# Altium schematic symbol library Barsotion_SCHLib.SchLib: 69 symbols
Pins are listed as number, name and electrical type; pins without a type are passive.

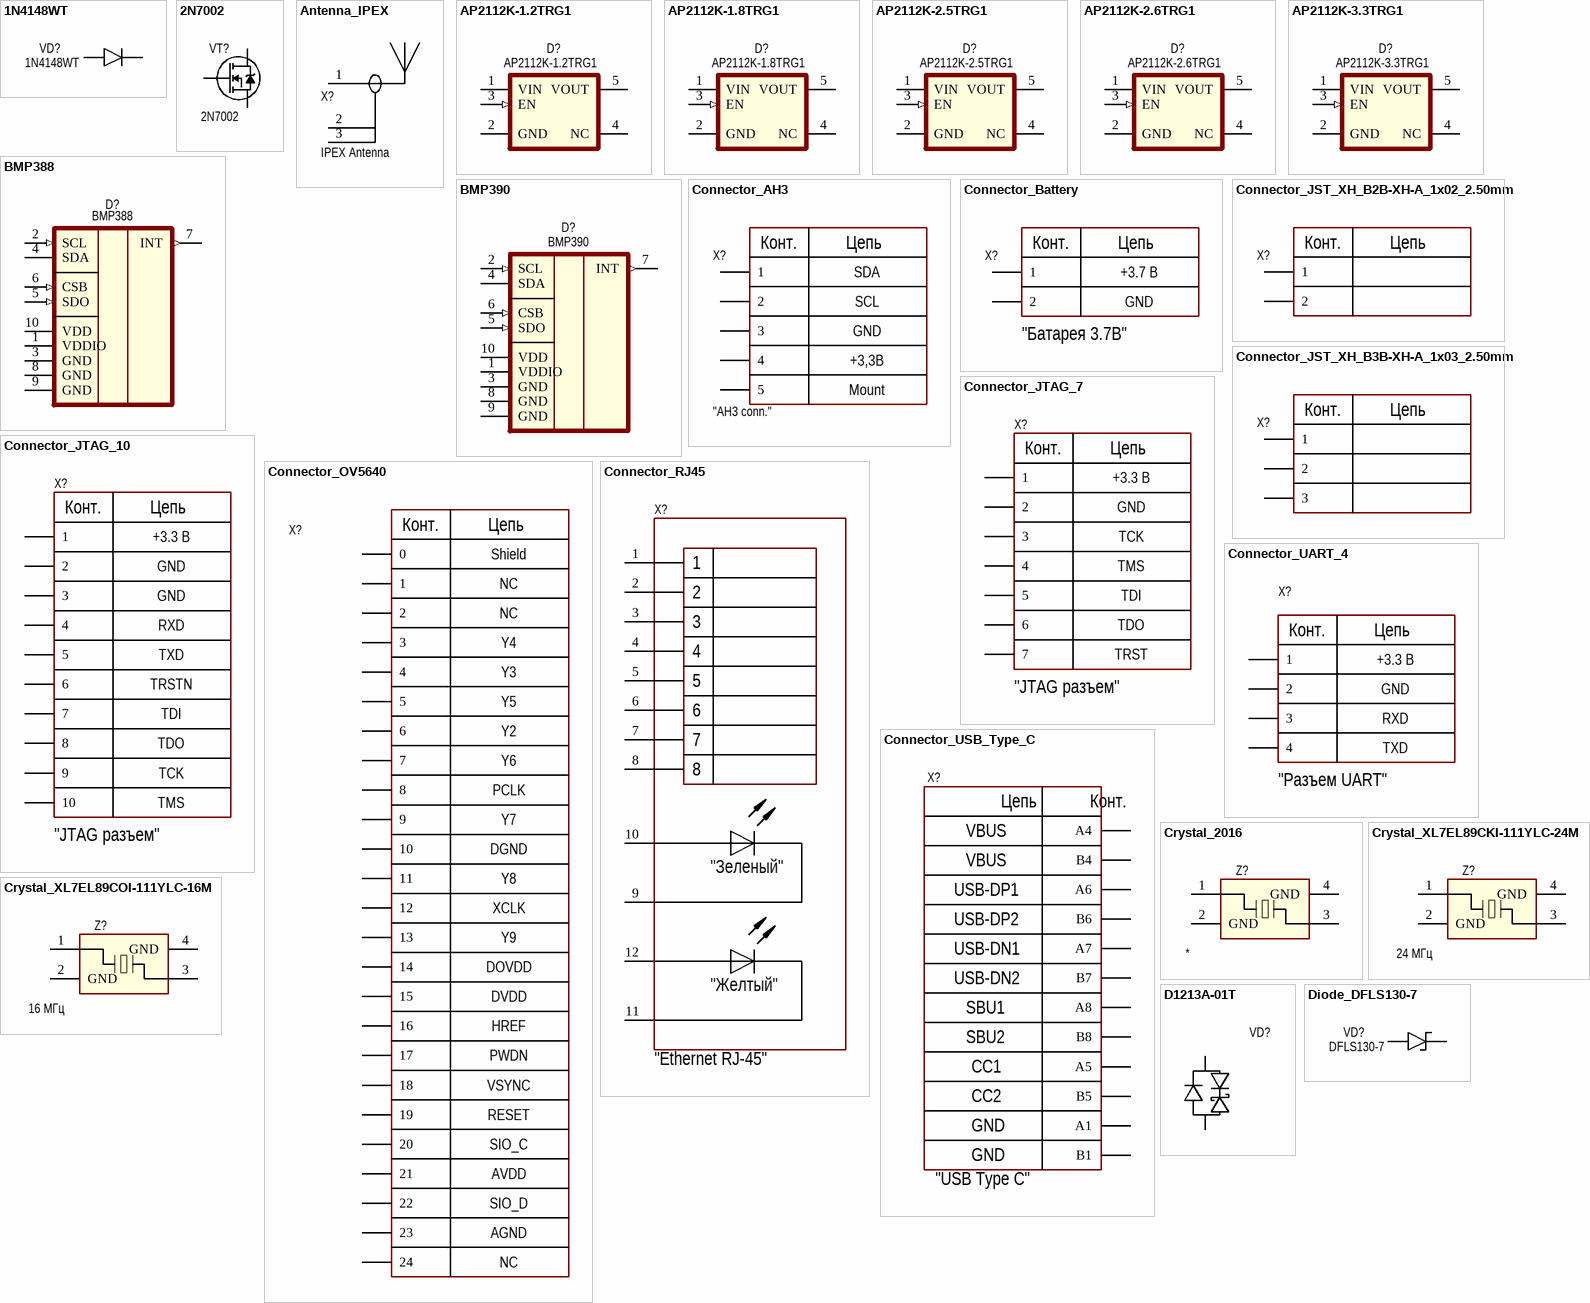
[diagram p0: symbols 1N4148WT to Diode_DFLS130-7]

## 1N4148WT
designator VD?, comment value 1N4148WT  (hidden comment: Diode Independent 75V 150mA Surface Mount SOD-523)
Диод кремниевый 100В 300мА, SOD-123; Manufacturer: JSMSEMI; Mfr.Part: 1N4148WT; HelpURL: https://www.lcsc.com/product-detail/C917006.html
footprint SOD-523
pins: A Anode, K Kathode

## 2N7002
designator VT?, comment value 2N7002  (hidden comment: N-Channel 60V 380mA 540mW Surface Mount SOT-23)
Транзистор N-канальный, 60В 115мА 200мВт, SOT-23; Mfr.Part: 2N7002K-7; Manufacturer: Diodes; HelpURL: https://www.lcsc.com/product-detail/C85047.html
footprint SOT-23
pins: 1 G, 2 S, 3 D

## Antenna_IPEX
designator X?, comment value IPEX Antenna  (hidden comment: Connector Receptacle IPEX Male Pin 50Ω Surface Mount)
Manufacturer: HRS; Mfr.Part: U.FL-R-SMT-1(80); HelpURL: https://www.lcsc.com/product-detail/C88374.html
footprint Conn_IPEX_ANTENNA
pins: 1 Antenna, 2 GND, 3 GND

## AP2112K-1.2TRG1
designator D?, comment value AP2112K-1.2TRG1  (hidden comment: 1.2V Positive Fixed SOT-25 Voltage Regulators - Linear, Low Drop Out (LDO) Regulators RoHS)
Микросхема линейного стабилизатора напряжения 1,2В 600мА, SOT-23-5; Manufacturer: Diodes; Mfr.Part: AP2112K-1.2TRG1; Parameter 1: https://www.lcsc.com/product-detail/C460310.html
footprint SOT-23-5
pins: 1 VIN, 2 GND (power), 3 EN (in), 4 NC, 5 VOUT (power)

## AP2112K-1.8TRG1
designator D?, comment value AP2112K-1.8TRG1  (hidden comment: 1.8V Positive Fixed SOT-25 Voltage Regulators - Linear, Low Drop Out (LDO) Regulators RoHS)
Микросхема линейного стабилизатора напряжения 1,8В 600мА, SOT-23-5; Manufacturer: Diodes; Mfr.Part: AP2112K-1.8TRG1; HelpURL: https://www.lcsc.com/product-detail/C176944.html
footprint SOT-23-5
pins: 1 VIN, 2 GND (power), 3 EN (in), 4 NC, 5 VOUT (power)

## AP2112K-2.5TRG1
designator D?, comment value AP2112K-2.5TRG1  (hidden comment: 2.5V Positive Fixed SOT-25 Voltage Regulators - Linear, Low Drop Out (LDO) Regulators RoHS)
Микросхема линейного стабилизатора напряжения 2,5В 600мА, SOT-23-5; Manufacturer: Diodes; Mfr.Part: AP2112K-2.5TRG1; HelpURL: https://www.lcsc.com/product-detail/C176945.html
footprint SOT-23-5
pins: 1 VIN, 2 GND (power), 3 EN (in), 4 NC, 5 VOUT (power)

## AP2112K-2.6TRG1
designator D?, comment value AP2112K-2.6TRG1  (hidden comment: 2.6V Positive Fixed SOT-25 Voltage Regulators - Linear, Low Drop Out (LDO) Regulators RoHS)
Микросхема линейного стабилизатора напряжения 2,6В 600мА, SOT-23-5; Manufacturer: Diodes; Mfr.Part: AP2112K-2.6TRG1; HelpURL: https://www.lcsc.com/product-detail/C7076810.html
footprint SOT-23-5
pins: 1 VIN, 2 GND (power), 3 EN (in), 4 NC, 5 VOUT (power)

## AP2112K-3.3TRG1
designator D?, comment value AP2112K-3.3TRG1  (hidden comment: 3.3V Positive Fixed SOT-25-5 Voltage Regulators - Linear, Low Drop Out (LDO) Regulators RoHS)
Микросхема линейного стабилизатора напряжения 3,3В 600мА, SOT-23-5; Manufacturer: Diodes; Mfr.Part: AP2112K-3.3TRG1; HelpURL: https://www.lcsc.com/product-detail/C51118.html
footprint SOT-23-5
pins: 1 VIN, 2 GND (power), 3 EN (in), 4 NC, 5 VOUT (power)

## BMP388
designator D?, comment value BMP388  (hidden comment: 30Kpa~1.25bar LGA-10(2x2) Pressure Sensors, Transducers RoHS)
Микросхема интегрального барометра, LGA-10 2x2mm; Manufacturer: Bosch; Mfr.Part: BMP388; HelpURL: https://www.lcsc.com/product-detail/C779278.html
footprint BMP388_LGA-10_2x2mm
pins: 1 VDDIO (power), 2 SCL (in), 3 GND (power), 4 SDA (oc), 5 SDO (in), 6 CSB (in), 7 INT (out), 8 GND (power), 9 GND (power), 10 VDD (power)

## BMP390
designator D?, comment value BMP390  (hidden comment: 30Kpa~1.25bar LGA-10(2x2) Pressure Sensors, Transducers RoHS)
Микросхема интегрального барометра, LGA-10 2x2mm; Manufacturer: Bosch; Mfr.Part: BMP390; HelpURL: https://www.lcsc.com/product-detail/C5124834.html
footprint BMP390_LGA-10_2x2mm
pins: 1 VDDIO (power), 2 SCL (in), 3 GND (power), 4 SDA (oc), 5 SDO (in), 6 CSB (in), 7 INT (out), 8 GND (power), 9 GND (power), 10 VDD (power)

## Connector_AH3
designator X?, comment value "AH3 conn."  (hidden comment: Connector Header 4 position 1.25mm Pitch)
Manufacturer: CJT(Changjiang Connectors); Mfr.Part: A1257WR-S-4P; HelpURL: https://www.lcsc.com/product-detail/C225127.html
footprint CONN_JST_GH_SM04B
pins: 1, 2, 3, 4, 5
text: Конт.; Цепь; SDA; SCL; GND; +3,3В; Mount

## Connector_Battery
designator X?, comment "Батарея 3.7В"
Battery connector for cable soldering
footprint CONN_BATTERY_3V7_V2
pins: 1, 2
text: Конт.; Цепь; +3.7 В; GND

## Connector_JST_XH_B2B-XH-A_1x02_2.50mm
designator X?  (value not drawn)
2-pin through-hole connector
footprint CONN_JST_XH_B2B-XH-A_1x02_P2.50mm
pins: 1, 2
text: Конт.; Цепь

## Connector_JST_XH_B3B-XH-A_1x03_2.50mm
designator X?  (value not drawn)
3-pin through-hole connector
footprint CONN_JST_XH_B3B-XH-A_1x03_P2.50mm
pins: 1, 2, 3
text: Конт.; Цепь

## Connector_JTAG_7
designator X?  CommentText: "JTAG разъем"
Edge-board JTAG connector including TRST; Manufacturer: JST; ValueManufacturerPartNumber: Connector, 2pin, 2.5 mm, 250V, 3A; PartNumber: B2B-EH-A; VoltageMax: 250V; Pitch: 2.5 mm; CurrentMax: 3A; Multichannel: 2pin; HelpURL: https://www.digikey.com/product-detail/en/jst-sales-america-inc/B2B-EH-A-LF-SN/455-1611-ND/926520; TypeConnector: Connector
footprint CONN_7x1.27мм_NO_SOLDERING
pins: 1, 2, 3, 4, 5, 6, 7
text: Конт.; Цепь; +3.3 В; GND; TCK; TMS; TDI; TDO; TRST

## Connector_JTAG_10
designator X?  CommentText: "JTAG разъем"
Edge-board JTAG connector including TRST; Manufacturer: JST; ValueManufacturerPartNumber: Connector, 2pin, 2.5 mm, 250V, 3A; PartNumber: B2B-EH-A; VoltageMax: 250V; Pitch: 2.5 mm; CurrentMax: 3A; Multichannel: 2pin; HelpURL: https://www.digikey.com/product-detail/en/jst-sales-america-inc/B2B-EH-A-LF-SN/455-1611-ND/926520; TypeConnector: Connector
footprint CONN_5x10_1.27мм_NO_SOLDERING
pins: 1, 2, 3, 4, 5, 6, 7, 8, 9, 10
text: Конт.; Цепь; +3.3 В; GND; RXD; TXD; TRSTN; TDI; TDO; TCK; TMS

## Connector_OV5640
designator X?, comment FFC/FPC Connector 24 Position 0.5mm Pitch Bottom Contact Surface Mount, Right Angle -25℃~+85℃  (value not drawn)
Manufacturer: kinghelm; Mfr.Part: KH-FG0.5-H2.0-24PIN; Value: OV5640; HelpURL: https://www.lcsc.com/product-detail/C2797213.html
footprint OV5640_CONNECTOR
pins: 0, 1, 2, 3, 4, 5, 6, 7, 8, 9, 10, 11, 12, 13, 14, 15, 16, 17, 18, 19, 20, 21, 22, 23, 24
text: Конт.; Цепь; Shield; NC; Y4; Y3; Y5; Y2; Y6; PCLK; Y7; DGND; Y8; XCLK; Y9; DOVDD; DVDD; HREF; PWDN; VSYNC; RESET; SIO_C; AVDD; SIO_D; AGND

## Connector_RJ45
designator X?  CommentText: "Ethernet RJ-45"
Manufacturer: Wurth; ValueManufacturerPartNumber: Etherner RJ-45 connector; PartNumber: 615008137421; AnalogComponent: DS1128-09-S8B8S (Connfly); HelpURL: https://www.digikey.com/product-detail/en/w-rth-elektronik/615008137421/732-2112-ND/2060608; TypeConnector: Etherner RJ-45 connector
footprint CON: HR911105A
pins: 1 D2, 2 D2, 3 D2, 4 D2, 5 D2, 6 D2, 7 D2, 8 D2, 9 D2, 10 D1, 11 D3, 12 D4
text: "Зеленый"; "Желтый"

## Connector_UART_4
designator X?, comment "Разъем UART"
footprint CONN_4x1.27мм_NO_SOLDERING
pins: 1, 2, 3, 4
text: Конт.; Цепь; +3.3 В; GND; RXD; TXD

## Connector_USB_Type_C
designator X?, comment CommentText: "USB Type C"  (hidden comment: USB-C (USB TYPE-C) Receptacle Connector 16 Position Surface Mount)
16-pin USB-C connector, surface mount; Manufacturer: HDGC; Mfr.Part: TYPE C-DB-116PWB; HelpURL: https://www.lcsc.com/product-detail/C7395062.html
footprint CON: TYPE-C-31-M-12
pins: A1 (power), A4, A5 (power), A6 (power), A7 (power), A8 (power), B1 (power), B4, B5 (power), B6 (power), B7 (power), B8 (power)
text: Цепь; Конт.; VBUS; USB-DP1; USB-DP2; USB-DN1; USB-DN2; SBU1; SBU2; CC1; CC2; GND

## Crystal_2016
designator Z?
Mfr.Part: *; Manufacturer: *; Value: *
footprint OSC: 2016
pins: 1 X1, 2 GND, 3 X2, 4 GND

## Crystal_XL7EL89CKI-111YLC-24M
designator Z?  value 24 МГц  (hidden comment: *)
Кварцевый резонатор 24 МГц 2016; Mfr.Part: XL7EL89CKI-111YLC-24M; Manufacturer: YXC Crystal Oscillators; HelpURL: https://www.lcsc.com/product-detail/C2965580.html
footprint OSC: 2016
pins: 1 X1, 2 GND, 3 X2, 4 GND

## Crystal_XL7EL89COI-111YLC-16M
designator Z?, comment value 16 МГц  (hidden comment: Crystal 16MHz ±10ppm 12pF SMD2016-4P)
Кварцевый резонатор 16 МГц 2016; Mfr.Part: XL7EL89COI-111YLC-16M; Manufacturer: YXC Crystal Oscillators; HelpURL: https://www.lcsc.com/product-detail/C2965579.html
footprint OSC: 2016
pins: 1 X1, 2 GND, 3 X2, 4 GND

## D1213A-01T
designator VD?, comment 10VC Clamp 1A@8/20us Ipp TVS DIODE SOD-523  (value not drawn)
Диод защитный 10В; Manufacturer: Diodes; Mfr.Part: D1213A-01T-7; Value: D1213A-01T-7; HelpURL: https://www.lcsc.com/product-detail/C460584.html
footprint SOD-523
pins: A, K

## Diode_DFLS130-7
designator VD?, comment value DFLS130-7  (hidden comment: 1 Independent 30V 420mV@1A 1A PowerDI-123 Single Diodes RoHS)
Диод Шоттки 30V 420mV@1A 1A PowerDI-123; Mfr.Part: DFLS130-7; Manufacturer: DIODES; HelpURL: https://www.lcsc.com/product-detail/C150474.html
footprint PowerDI-123
pins: A Anode, K Kathode

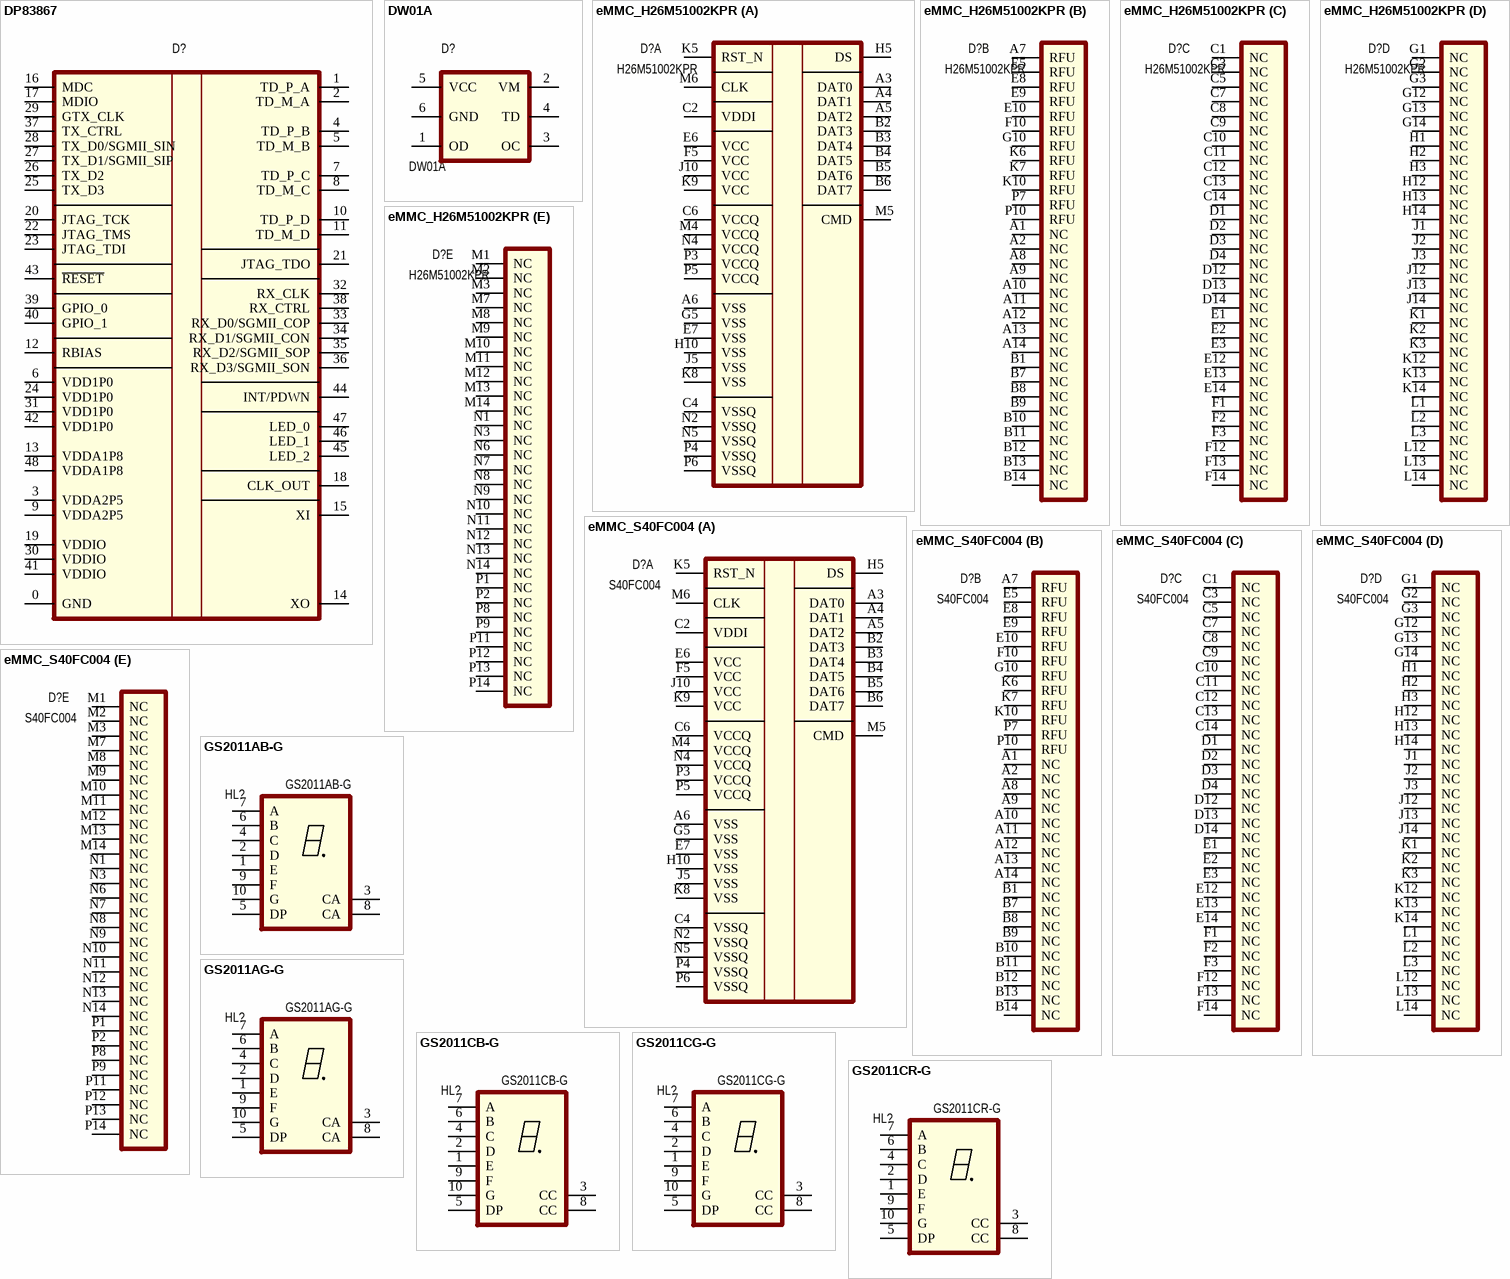
[diagram p1: symbols DP83867 to GS2011CR-G]

## DP83867
designator D?, comment 1Gbps VQFN-48-EP(7x7) Interface Controllers RoHS  (value not drawn)
Микросхема Ethernet PHY 1 Гбит; Manufacturer: Texas Instruments; Mfr.Part: DP83867ERGZR; Value: DP83867ERGZR; HelpURL: https://www.lcsc.com/product-detail/C913839.html
footprint VQFN-48_7X7MM
pins: 0 GND, 1 TD_P_A, 2 TD_M_A, 3 VDDA2P5, 4 TD_P_B, 5 TD_M_B, 6 VDD1P0, 7 TD_P_C, 8 TD_M_C, 9 VDDA2P5, 10 TD_P_D, 11 TD_M_D, 12 RBIAS, 13 VDDA1P8, 14 XO, 15 XI, 16 MDC, 17 MDIO, 18 CLK_OUT, 19 VDDIO, 20 JTAG_TCK, 21 JTAG_TDO, 22 JTAG_TMS, 23 JTAG_TDI, 24 VDD1P0, 25 TX_D3, 26 TX_D2, 27 TX_D1/SGMII_SIP, 28 TX_D0/SGMII_SIN, 29 GTX_CLK, 30 VDDIO, 31 VDD1P0, 32 RX_CLK, 33 RX_D0/SGMII_COP, 34 RX_D1/SGMII_CON, 35 RX_D2/SGMII_SOP, 36 RX_D3/SGMII_SON, 37 TX_CTRL, 38 RX_CTRL, 39 GPIO_0, 40 GPIO_1, 41 VDDIO, 42 VDD1P0, 43 ~{RESET}, 44 INT/PDWN, 45 LED_2, 46 LED_1, 47 LED_0, 48 VDDA1P8

## DW01A
designator D?, comment value DW01A  (hidden comment: Battery Protection IC Lithium Battery SOT-23-6)
Микросхема защиты li-ion-батареи; Mfr.Part: DW01A-JSM; Manufacturer: JSMSEMI; HelpURL: https://www.lcsc.com/product-detail/C39846919.html
footprint SOT23-6 (pitch 0.95 mm)
pins: 1 OD, 2 VM, 3 OC, 4 TD, 5 VCC, 6 GND

## eMMC_H26M51002KPR
designator D?, comment value H26M51002KPR  (hidden comment: 16GB eMMC 5.1 FBGA-153 Memory (ICs) RoHS)
Микросхема eMMC, 16ГБ, FBGA-153 13x11.5mm; Manufacturer: HYNIX; Mfr.Part: H26M51002KPR; HelpURL: https://www.lcsc.com/product-detail/C3002775.html
footprint eMMC_13x11.5mm
part A pins: A3 DAT0, A4 DAT1, A5 DAT2, A6 VSS, B2 DAT3, B3 DAT4, B4 DAT5, B5 DAT6, B6 DAT7, C2 VDDI, C4 VSSQ, C6 VCCQ, E6 VCC, E7 VSS, F5 VCC, G5 VSS, H5 DS, H10 VSS, J5 VSS, J10 VCC, K5 RST_N, K8 VSS, K9 VCC, M4 VCCQ, M5 CMD, M6 CLK, N2 VSSQ, N4 VCCQ, N5 VSSQ, P3 VCCQ, P4 VSSQ, P5 VCCQ, P6 VSSQ
part B pins: A1 NC, A2 NC, A7 RFU, A8 NC, A9 NC, A10 NC, A11 NC, A12 NC, A13 NC, A14 NC, B1 NC, B7 NC, B8 NC, B9 NC, B10 NC, B11 NC, B12 NC, B13 NC, B14 NC, E5 RFU, E8 RFU, E9 RFU, E10 RFU, F10 RFU, G10 RFU, K6 RFU, K7 RFU, K10 RFU, P7 RFU, P10 RFU
part C pins: C1 NC, C3 NC, C5 NC, C7 NC, C8 NC, C9 NC, C10 NC, C11 NC, C12 NC, C13 NC, C14 NC, D1 NC, D2 NC, D3 NC, D4 NC, D12 NC, D13 NC, D14 NC, E1 NC, E2 NC, E3 NC, E12 NC, E13 NC, E14 NC, F1 NC, F2 NC, F3 NC, F12 NC, F13 NC, F14 NC
part D pins: G1 NC, G2 NC, G3 NC, G12 NC, G13 NC, G14 NC, H1 NC, H2 NC, H3 NC, H12 NC, H13 NC, H14 NC, J1 NC, J2 NC, J3 NC, J12 NC, J13 NC, J14 NC, K1 NC, K2 NC, K3 NC, K12 NC, K13 NC, K14 NC, L1 NC, L2 NC, L3 NC, L12 NC, L13 NC, L14 NC
part E pins: M1 NC, M2 NC, M3 NC, M7 NC, M8 NC, M9 NC, M10 NC, M11 NC, M12 NC, M13 NC, M14 NC, N1 NC, N3 NC, N6 NC, N7 NC, N8 NC, N9 NC, N10 NC, N11 NC, N12 NC, N13 NC, N14 NC, P1 NC, P2 NC, P8 NC, P9 NC, P11 NC, P12 NC, P13 NC, P14 NC

## eMMC_S40FC004
designator D?  value S40FC004
Микросхема ПЗУ типа eMMC, 4ГБ, FBGA-153 9x7.5mm; Mfr.Part: S40FC004C1B2I00300; Manufacturer: SkyHigh Memory
footprint eMMC_9x7.5mm
part A pins: A3 DAT0, A4 DAT1, A5 DAT2, A6 VSS, B2 DAT3, B3 DAT4, B4 DAT5, B5 DAT6, B6 DAT7, C2 VDDI, C4 VSSQ, C6 VCCQ, E6 VCC, E7 VSS, F5 VCC, G5 VSS, H5 DS, H10 VSS, J5 VSS, J10 VCC, K5 RST_N, K8 VSS, K9 VCC, M4 VCCQ, M5 CMD, M6 CLK, N2 VSSQ, N4 VCCQ, N5 VSSQ, P3 VCCQ, P4 VSSQ, P5 VCCQ, P6 VSSQ
part B pins: A1 NC, A2 NC, A7 RFU, A8 NC, A9 NC, A10 NC, A11 NC, A12 NC, A13 NC, A14 NC, B1 NC, B7 NC, B8 NC, B9 NC, B10 NC, B11 NC, B12 NC, B13 NC, B14 NC, E5 RFU, E8 RFU, E9 RFU, E10 RFU, F10 RFU, G10 RFU, K6 RFU, K7 RFU, K10 RFU, P7 RFU, P10 RFU
part C pins: C1 NC, C3 NC, C5 NC, C7 NC, C8 NC, C9 NC, C10 NC, C11 NC, C12 NC, C13 NC, C14 NC, D1 NC, D2 NC, D3 NC, D4 NC, D12 NC, D13 NC, D14 NC, E1 NC, E2 NC, E3 NC, E12 NC, E13 NC, E14 NC, F1 NC, F2 NC, F3 NC, F12 NC, F13 NC, F14 NC
part D pins: G1 NC, G2 NC, G3 NC, G12 NC, G13 NC, G14 NC, H1 NC, H2 NC, H3 NC, H12 NC, H13 NC, H14 NC, J1 NC, J2 NC, J3 NC, J12 NC, J13 NC, J14 NC, K1 NC, K2 NC, K3 NC, K12 NC, K13 NC, K14 NC, L1 NC, L2 NC, L3 NC, L12 NC, L13 NC, L14 NC
part E pins: M1 NC, M2 NC, M3 NC, M7 NC, M8 NC, M9 NC, M10 NC, M11 NC, M12 NC, M13 NC, M14 NC, N1 NC, N3 NC, N6 NC, N7 NC, N8 NC, N9 NC, N10 NC, N11 NC, N12 NC, N13 NC, N14 NC, P1 NC, P2 NC, P8 NC, P9 NC, P11 NC, P12 NC, P13 NC, P14 NC

## GS2011AB-G
designator HL?, comment Mfr.Part: GS2011AB-G  (hidden comment: Blue 1 100mW Common Anode 0.2 SMD,10x6.9mm LED Character and Numeric RoHS)
Индикатор светодиодный семисегментный синий, SMD, 10x6.9 мм, общий анод; Manufacturer: Guangcai Display; Value: GS2011AB-G; HelpURL: https://www.lcsc.com/product-detail/C22462631.html
footprint LED_7SEG_SMD
pins: 1 E, 2 D, 3 CA, 4 C, 5 DP, 6 B, 7 A, 8 CA, 9 F, 10 G

## GS2011AG-G
designator HL?, comment Mfr.Part: GS2011AG-G  (hidden comment: Yellow Green 1 100mW Common Anode 0.2 SMD,10x6.9mm LED Character and Numeric RoHS)
Индикатор светодиодный семисегментный зеленый, SMD, 10x6.9 мм, общий анод; Manufacturer: Guangcai Display; Value: GS2011AG-G; HelpURL: https://www.lcsc.com/product-detail/C22462633.html
footprint LED_7SEG_SMD
pins: 1 E, 2 D, 3 CA, 4 C, 5 DP, 6 B, 7 A, 8 CA, 9 F, 10 G

## GS2011CB-G
designator HL?, comment Mfr.Part: GS2011CB-G  (hidden comment: Blue 1 100mW Common Cathode 0.2 SMD,10x6.9mm LED Character and Numeric RoHS)
Индикатор светодиодный семисегментный синий, SMD, 10x6.9 мм, общий катод; Manufacturer: Guangcai Display; Value: GS2011CB-G; HelpURL: https://www.lcsc.com/product-detail/C22462632.html
footprint LED_7SEG_SMD
pins: 1 E, 2 D, 3 CC, 4 C, 5 DP, 6 B, 7 A, 8 CC, 9 F, 10 G

## GS2011CG-G
designator HL?, comment Mfr.Part: GS2011CG-G  (hidden comment: Yellow Green 1 100mW Common Cathode 0.2 SMD,10x6.9mm LED Character and Numeric RoHS)
Индикатор светодиодный семисегментный зеленый, SMD, 10x6.9 мм, общий катод; Manufacturer: Guangcai Display; Value: GS2011CG-G; HelpURL: https://www.lcsc.com/product-detail/C22462634.html
footprint LED_7SEG_SMD
pins: 1 E, 2 D, 3 CC, 4 C, 5 DP, 6 B, 7 A, 8 CC, 9 F, 10 G

## GS2011CR-G
designator HL?, comment Mfr.Part: GS2011CR-G  (hidden comment: Red 1 100mW Common Cathode 0.2 SMD,10x6.9mm LED Character and Numeric RoHS)
Индикатор светодиодный семисегментный красный, SMD, 10x6.9 мм, общий катод; Manufacturer: Guangcai Display; Value: GS2011CR-G; HelpURL: https://www.lcsc.com/product-detail/C22462630.html
footprint LED_7SEG_SMD
pins: 1 E, 2 D, 3 CC, 4 C, 5 DP, 6 B, 7 A, 8 CC, 9 F, 10 G

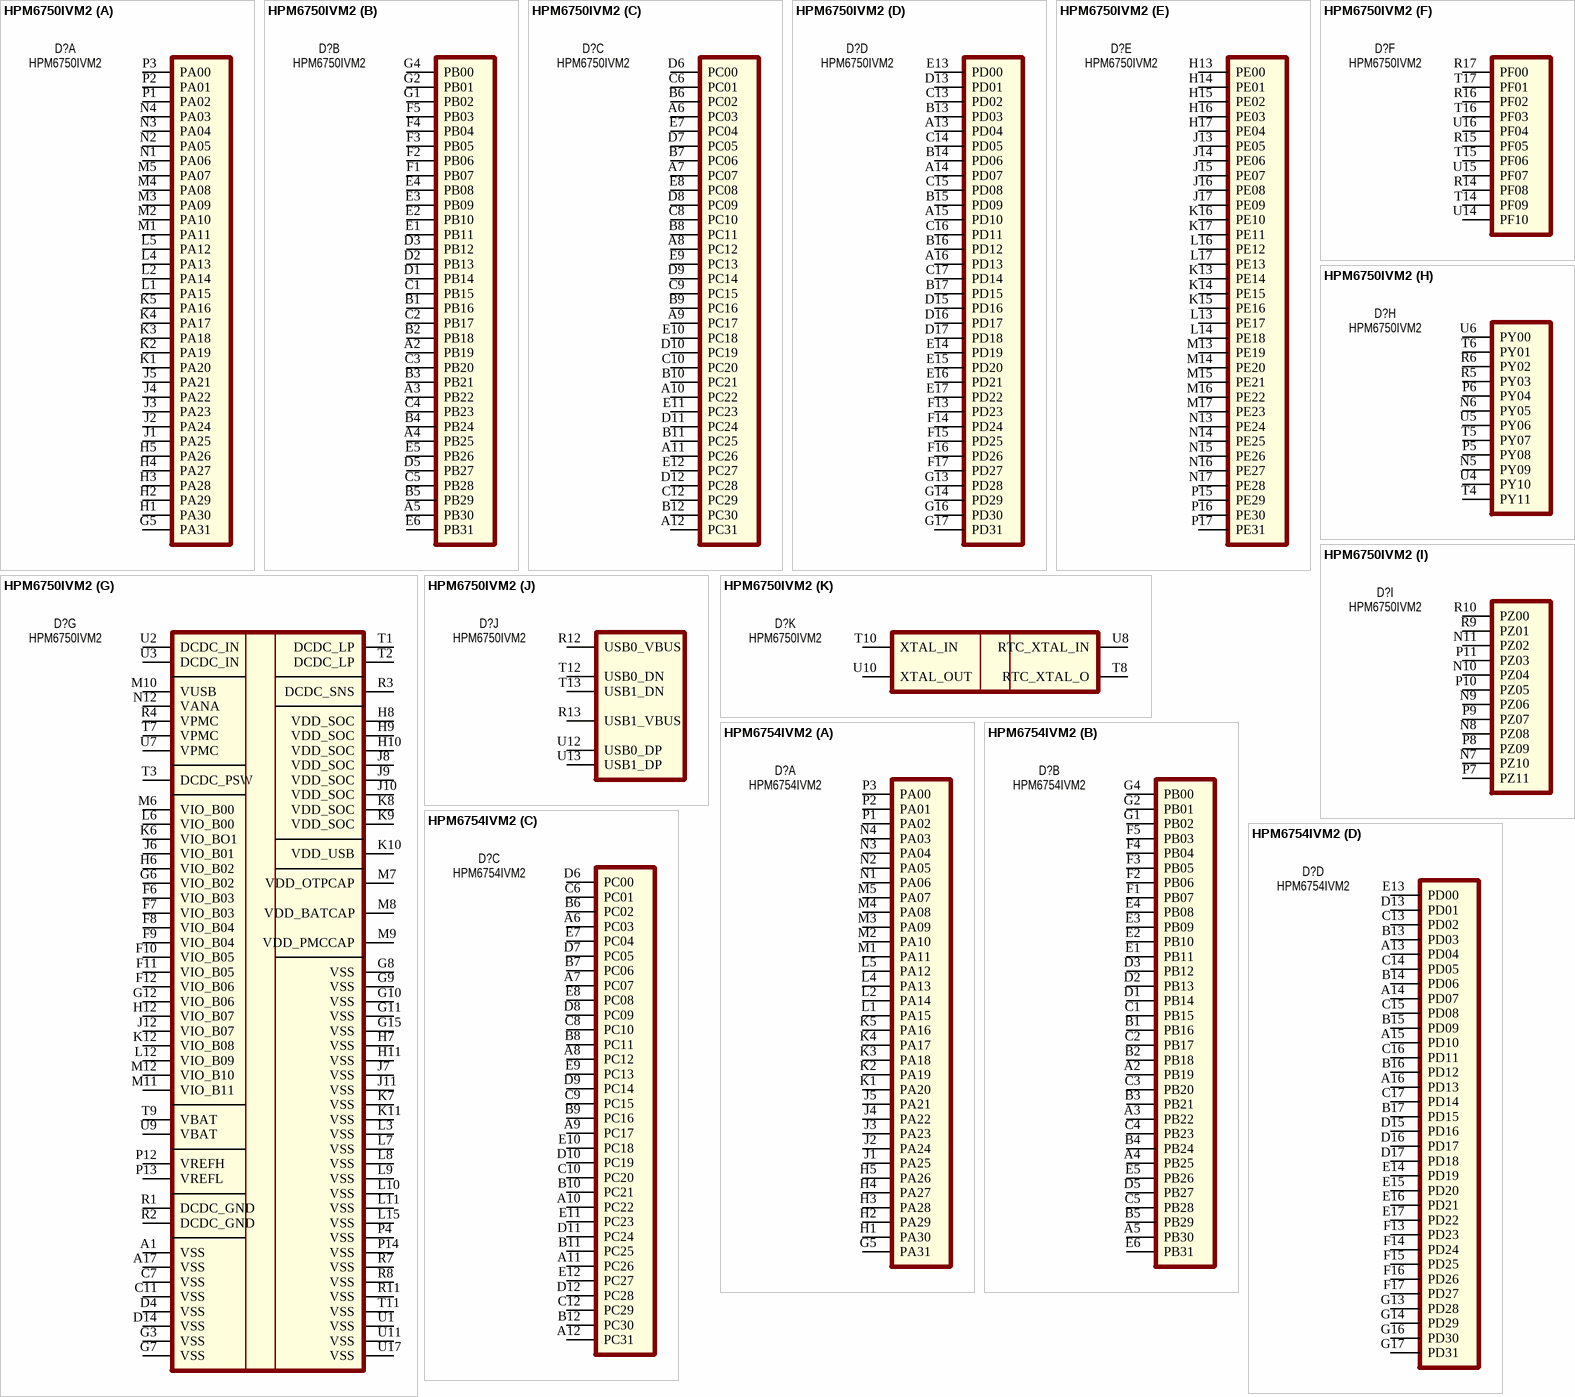
[diagram p2: symbols HPM6750IVM2 to HPM6754IVM2]

## HPM6750IVM2
designator D?, comment value HPM6750IVM2  (hidden comment: 816MHz 195 BGA-289(14x14) Microcontrollers RoHS)
Микроконтроллер RISC-V, 2xRV32GCBP@816МГц, 2МБ ОЗУ, BGA-289 14x14mm; Manufacturer: HPMICRO; Mfr.Part: HPM6750IVM2; HelpURL: https://www.lcsc.com/product-detail/C49374601.html
footprint HPM6750IVM2_BGA-289_14x14mm
part A pins: G5 PA31, H1 PA30, H2 PA29, H3 PA28, H4 PA27, H5 PA26, J1 PA25, J2 PA24, J3 PA23, J4 PA22, J5 PA21, K1 PA20, K2 PA19, K3 PA18, K4 PA17, K5 PA16, L1 PA15, L2 PA14, L4 PA13, L5 PA12, M1 PA11, M2 PA10, M3 PA09, M4 PA08, M5 PA07, N1 PA06, N2 PA05, N3 PA04, N4 PA03, P1 PA02, P2 PA01, P3 PA00
part B pins: A2 PB19, A3 PB22, A4 PB25, A5 PB30, B1 PB16, B2 PB18, B3 PB21, B4 PB24, B5 PB29, C1 PB15, C2 PB17, C3 PB20, C4 PB23, C5 PB28, D1 PB14, D2 PB13, D3 PB12, D5 PB27, E1 PB11, E2 PB10, E3 PB09, E4 PB08, E5 PB26, E6 PB31, F1 PB07, F2 PB06, F3 PB05, F4 PB04, F5 PB03, G1 PB02, G2 PB01, G4 PB00
part C pins: A6 PC03, A7 PC07, A8 PC12, A9 PC17, A10 PC22, A11 PC26, A12 PC31, B6 PC02, B7 PC06, B8 PC11, B9 PC16, B10 PC21, B11 PC25, B12 PC30, C6 PC01, C8 PC10, C9 PC15, C10 PC20, C12 PC29, D6 PC00, D7 PC05, D8 PC09, D9 PC14, D10 PC19, D11 PC24, D12 PC28, E7 PC04, E8 PC08, E9 PC13, E10 PC18, E11 PC23, E12 PC27
part D pins: A13 PD04, A14 PD07, A15 PD10, A16 PD13, B13 PD03, B14 PD06, B15 PD09, B16 PD12, B17 PD15, C13 PD02, C14 PD05, C15 PD08, C16 PD11, C17 PD14, D13 PD01, D15 PD16, D16 PD17, D17 PD18, E13 PD00, E14 PD19, E15 PD20, E16 PD21, E17 PD22, F13 PD23, F14 PD24, F15 PD25, F16 PD26, F17 PD27, G13 PD28, G14 PD29, G16 PD30, G17 PD31
part E pins: H13 PE00, H14 PE01, H15 PE02, H16 PE03, H17 PE04, J13 PE05, J14 PE06, J15 PE07, J16 PE08, J17 PE09, K13 PE14, K14 PE15, K15 PE16, K16 PE10, K17 PE11, L13 PE17, L14 PE18, L16 PE12, L17 PE13, M13 PE19, M14 PE20, M15 PE21, M16 PE22, M17 PE23, N13 PE24, N14 PE25, N15 PE26, N16 PE27, N17 PE28, P15 PE29, P16 PE30, P17 PE31
part F pins: R14 PF08, R15 PF05, R16 PF02, R17 PF00, T14 PF09, T15 PF06, T16 PF03, T17 PF01, U14 PF10, U15 PF07, U16 PF04
part G pins: A1 VSS (power), A17 VSS, C7 VSS, C11 VSS, D4 VSS, D14 VSS, F6 VIO_B03, F7 VIO_B03, F8 VIO_B04, F9 VIO_B04, F10 VIO_B05, F11 VIO_B05, F12 VIO_B06, G3 VSS, G6 VIO_B02, G7 VSS, G8 VSS, G9 VSS, G10 VSS, G11 VSS, G12 VIO_B06, G15 VSS, H6 VIO_B02, H7 VSS, H8 VDD_SOC, H9 VDD_SOC, H10 VDD_SOC, H11 VSS, H12 VIO_B07, J6 VIO_B01, J7 VSS, J8 VDD_SOC, J9 VDD_SOC, J10 VDD_SOC, J11 VSS, J12 VIO_B07, K6 VIO_BO1, K7 VSS, K8 VDD_SOC, K9 VDD_SOC, K10 VDD_USB, K11 VSS, K12 VIO_B08, L3 VSS, L6 VIO_B00, L7 VSS, L8 VSS, L9 VSS, L10 VSS, L11 VSS, L12 VIO_B09, L15 VSS, M6 VIO_B00, M7 VDD_OTPCAP, M8 VDD_BATCAP, M9 VDD_PMCCAP, M10 VUSB, M11 VIO_B11, M12 VIO_B10, N12 VANA, P4 VSS, P12 VREFH, P13 VREFL, P14 VSS, R1 DCDC_GND, R2 DCDC_GND, R3 DCDC_SNS, R4 VPMC, R7 VSS, R8 VSS, R11 VSS, T1 DCDC_LP, T2 DCDC_LP, T3 DCDC_PSW, T7 VPMC, T9 VBAT, T11 VSS, U1 VSS, U2 DCDC_IN, U3 DCDC_IN, U7 VPMC, U9 VBAT, U11 VSS, U17 VSS
part H pins: N5 PY09, N6 PY05, P5 PY08, P6 PY04, R5 PY03, R6 PY02, T4 PY11, T5 PY07, T6 PY01, U4 PY10, U5 PY06, U6 PY00
part I pins: N7 PZ10, N8 PZ08, N9 PZ06, N10 PZ04, N11 PZ02, P7 PZ11, P8 PZ09, P9 PZ07, P10 PZ05, P11 PZ03, R9 PZ01, R10 PZ00
part J pins: R12 USB0_VBUS, R13 USB1_VBUS, T12 USB0_DN, T13 USB1_DN, U12 USB0_DP, U13 USB1_DP
part K pins: T8 RTC_XTAL_O, T10 XTAL_IN, U8 RTC_XTAL_IN, U10 XTAL_OUT

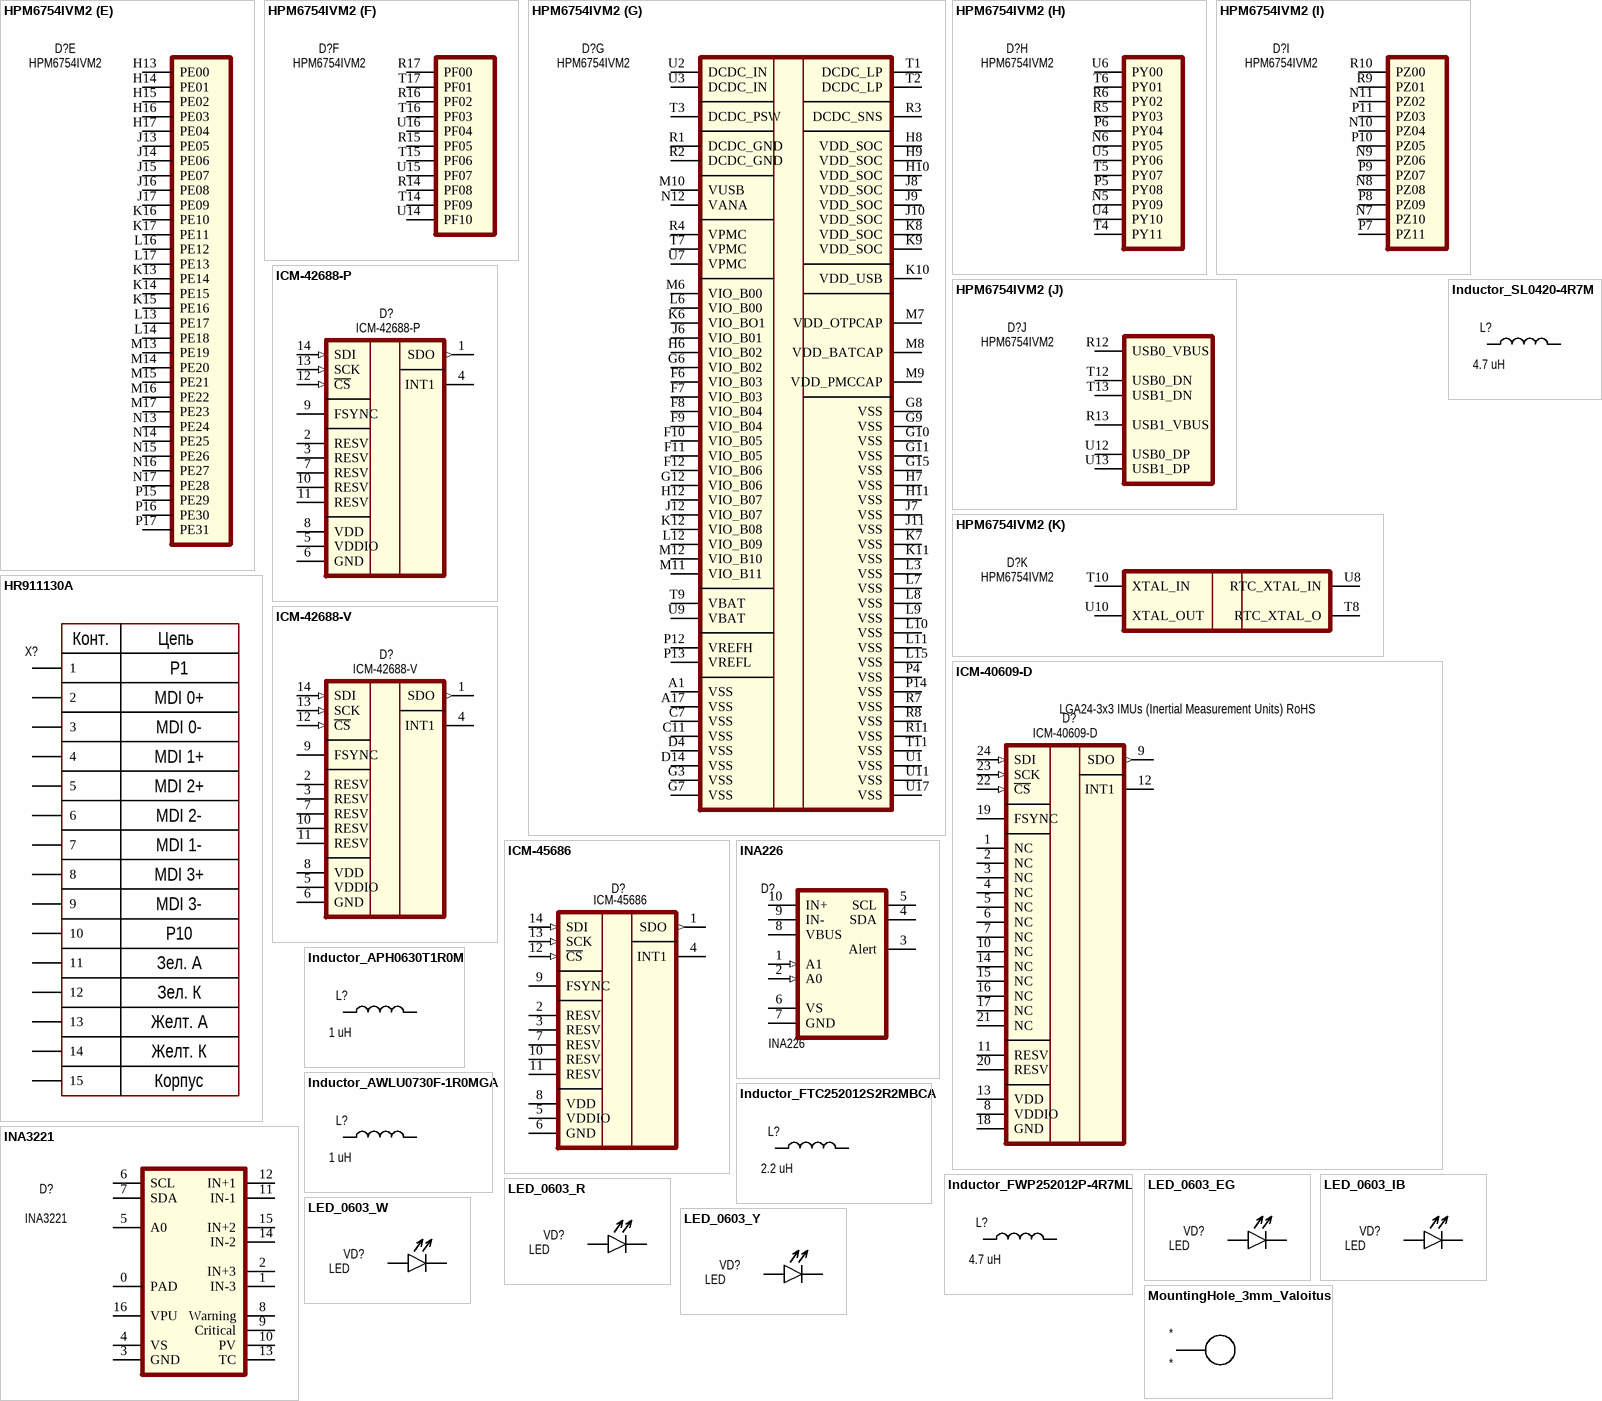
[diagram p3: symbols HPM6754IVM2 to MountingHole_3mm_Valoitus]

## HPM6754IVM2
designator D?, comment value HPM6754IVM2  (hidden comment: BGA-289(14x14) Microcontrollers RoHS)
Микроконтроллер RISC-V, 2xRV32GCBP@816МГц, 2МБ ОЗУ, BGA-289 14x14mm; Manufacturer: HPMICRO; Mfr.Part: HPM6754IVM2; HelpURL: https://www.lcsc.com/product-detail/C49451874.html
footprint HPM6754IVM2_BGA-289_14x14mm
part A pins: G5 PA31, H1 PA30, H2 PA29, H3 PA28, H4 PA27, H5 PA26, J1 PA25, J2 PA24, J3 PA23, J4 PA22, J5 PA21, K1 PA20, K2 PA19, K3 PA18, K4 PA17, K5 PA16, L1 PA15, L2 PA14, L4 PA13, L5 PA12, M1 PA11, M2 PA10, M3 PA09, M4 PA08, M5 PA07, N1 PA06, N2 PA05, N3 PA04, N4 PA03, P1 PA02, P2 PA01, P3 PA00
part B pins: A2 PB19, A3 PB22, A4 PB25, A5 PB30, B1 PB16, B2 PB18, B3 PB21, B4 PB24, B5 PB29, C1 PB15, C2 PB17, C3 PB20, C4 PB23, C5 PB28, D1 PB14, D2 PB13, D3 PB12, D5 PB27, E1 PB11, E2 PB10, E3 PB09, E4 PB08, E5 PB26, E6 PB31, F1 PB07, F2 PB06, F3 PB05, F4 PB04, F5 PB03, G1 PB02, G2 PB01, G4 PB00
part C pins: A6 PC03, A7 PC07, A8 PC12, A9 PC17, A10 PC22, A11 PC26, A12 PC31, B6 PC02, B7 PC06, B8 PC11, B9 PC16, B10 PC21, B11 PC25, B12 PC30, C6 PC01, C8 PC10, C9 PC15, C10 PC20, C12 PC29, D6 PC00, D7 PC05, D8 PC09, D9 PC14, D10 PC19, D11 PC24, D12 PC28, E7 PC04, E8 PC08, E9 PC13, E10 PC18, E11 PC23, E12 PC27
part D pins: A13 PD04, A14 PD07, A15 PD10, A16 PD13, B13 PD03, B14 PD06, B15 PD09, B16 PD12, B17 PD15, C13 PD02, C14 PD05, C15 PD08, C16 PD11, C17 PD14, D13 PD01, D15 PD16, D16 PD17, D17 PD18, E13 PD00, E14 PD19, E15 PD20, E16 PD21, E17 PD22, F13 PD23, F14 PD24, F15 PD25, F16 PD26, F17 PD27, G13 PD28, G14 PD29, G16 PD30, G17 PD31
part E pins: H13 PE00, H14 PE01, H15 PE02, H16 PE03, H17 PE04, J13 PE05, J14 PE06, J15 PE07, J16 PE08, J17 PE09, K13 PE14, K14 PE15, K15 PE16, K16 PE10, K17 PE11, L13 PE17, L14 PE18, L16 PE12, L17 PE13, M13 PE19, M14 PE20, M15 PE21, M16 PE22, M17 PE23, N13 PE24, N14 PE25, N15 PE26, N16 PE27, N17 PE28, P15 PE29, P16 PE30, P17 PE31
part F pins: R14 PF08, R15 PF05, R16 PF02, R17 PF00, T14 PF09, T15 PF06, T16 PF03, T17 PF01, U14 PF10, U15 PF07, U16 PF04
part G pins: A1 VSS (power), A17 VSS, C7 VSS, C11 VSS, D4 VSS, D14 VSS, F6 VIO_B03 (power), F7 VIO_B03 (power), F8 VIO_B04 (power), F9 VIO_B04 (power), F10 VIO_B05 (power), F11 VIO_B05 (power), F12 VIO_B06 (power), G3 VSS, G6 VIO_B02 (power), G7 VSS, G8 VSS (power), G9 VSS (power), G10 VSS (power), G11 VSS (power), G12 VIO_B06 (power), G15 VSS (power), H6 VIO_B02 (power), H7 VSS (power), H8 VDD_SOC (power), H9 VDD_SOC (power), H10 VDD_SOC (power), H11 VSS (power), H12 VIO_B07 (power), J6 VIO_B01 (power), J7 VSS (power), J8 VDD_SOC (power), J9 VDD_SOC (power), J10 VDD_SOC (power), J11 VSS (power), J12 VIO_B07 (power), K6 VIO_BO1 (power), K7 VSS (power), K8 VDD_SOC (power), K9 VDD_SOC (power), K10 VDD_USB (power), K11 VSS (power), K12 VIO_B08 (power), L3 VSS (power), L6 VIO_B00 (power), L7 VSS (power), L8 VSS (power), L9 VSS (power), L10 VSS (power), L11 VSS (power), L12 VIO_B09 (power), L15 VSS (power), M6 VIO_B00 (power), M7 VDD_OTPCAP, M8 VDD_BATCAP, M9 VDD_PMCCAP, M10 VUSB (power), M11 VIO_B11 (power), M12 VIO_B10 (power), N12 VANA (power), P4 VSS (power), P12 VREFH, P13 VREFL, P14 VSS (power), R1 DCDC_GND (power), R2 DCDC_GND (power), R3 DCDC_SNS, R4 VPMC (power), R7 VSS (power), R8 VSS (power), R11 VSS (power), T1 DCDC_LP (power), T2 DCDC_LP (power), T3 DCDC_PSW, T7 VPMC (power), T9 VBAT (power), T11 VSS (power), U1 VSS (power), U2 DCDC_IN (power), U3 DCDC_IN (power), U7 VPMC (power), U9 VBAT (power), U11 VSS (power), U17 VSS (power)
part H pins: N5 PY09, N6 PY05, P5 PY08, P6 PY04, R5 PY03, R6 PY02, T4 PY11, T5 PY07, T6 PY01, U4 PY10, U5 PY06, U6 PY00
part I pins: N7 PZ10, N8 PZ08, N9 PZ06, N10 PZ04, N11 PZ02, P7 PZ11, P8 PZ09, P9 PZ07, P10 PZ05, P11 PZ03, R9 PZ01, R10 PZ00
part J pins: R12 USB0_VBUS, R13 USB1_VBUS, T12 USB0_DN, T13 USB1_DN, U12 USB0_DP, U13 USB1_DP
part K pins: T8 RTC_XTAL_O, T10 XTAL_IN, U8 RTC_XTAL_IN, U10 XTAL_OUT

## HR911130A
designator X?  (value not drawn)
Розетка 8P8C до 1 ГБит со встроенным трансформатором; Manufacturer: HanRun; Mfr.Part: *; Value: HR911130A
footprint HR911130A
pins: 1, 2, 3, 4, 5, 6, 7, 8, 9, 10, 11, 12, 13, 14, 15
text: Конт.; Цепь; P1; MDI 0+; MDI 0-; MDI 1+; MDI 2+; MDI 2-; MDI 1-; MDI 3+; MDI 3-; P10; Зел. А; Зел. К; Желт. А; Желт. К; Корпус

## ICM-40609-D
designator D?, comment LGA24-3x3 IMUs (Inertial Measurement Units) RoHS  value ICM-40609-D
Микросхема интегрального гироскопа-акселерометра (IMU), LGA-24 3x3mm; Manufacturer: TDK InvenSense; Mfr.Part: ICM-40609-D; HelpURL: *
footprint ICM-40609-D_LGA-24_3x3mm
pins: 1 NC, 2 NC, 3 NC, 4 NC, 5 NC, 6 NC, 7 NC, 8 VDDIO (power), 9 SDO (out), 10 NC, 11 RESV, 12 INT1, 13 VDD (power), 14 NC, 15 NC, 16 NC, 17 NC, 18 GND (power), 19 FSYNC, 20 RESV, 21 NC, 22 ~{CS} (in), 23 SCK (in), 24 SDI (in)

## ICM-42688-P
designator D?, comment value ICM-42688-P  (hidden comment: LGA-14(2.5x3) IMUs (Inertial Measurement Units) RoHS)
Микросхема интегрального гироскопа-акселерометра (IMU), LGA-14 3x2.5mm; Manufacturer: TDK InvenSense; Mfr.Part: ICM-42688-P; HelpURL: *
footprint ICM-42688-P_LGA-14_3x2.5mm
pins: 1 SDO (out), 2 RESV, 3 RESV, 4 INT1, 5 VDDIO (power), 6 GND (power), 7 RESV, 8 VDD (power), 9 FSYNC, 10 RESV, 11 RESV, 12 ~{CS} (in), 13 SCK (in), 14 SDI (in)

## ICM-42688-V
designator D?, comment value ICM-42688-V  (hidden comment: LGA-14(2.5x3) Accelerometers RoHS)
Микросхема интегрального гироскопа-акселерометра (IMU), LGA-14 3x2.5mm; Manufacturer: TDK InvenSense; Mfr.Part: ICM-42688-V; HelpURL: *
footprint ICM-42688-V_LGA-14_3x2.5mm
pins: 1 SDO (out), 2 RESV, 3 RESV, 4 INT1, 5 VDDIO (power), 6 GND (power), 7 RESV, 8 VDD (power), 9 FSYNC, 10 RESV, 11 RESV, 12 ~{CS} (in), 13 SCK (in), 14 SDI (in)

## ICM-45686
designator D?, comment value ICM-45686  (hidden comment: High Performance Dual-Interface (UI + AUX) 6-Axis MEMS MotionTracking Device)
Микросхема интегрального гироскопа-акселерометра (IMU), LGA-14 3x2.5mm; Manufacturer: TDK InvenSense; Mfr.Part: ICM-45686; HelpURL: *
footprint ICM-42688-P_LGA-14_3x2.5mm
pins: 1 SDO (out), 2 RESV, 3 RESV, 4 INT1, 5 VDDIO (power), 6 GND (power), 7 RESV, 8 VDD (power), 9 FSYNC, 10 RESV, 11 RESV, 12 ~{CS} (in), 13 SCK (in), 14 SDI (in)

## INA226
designator D?, comment value INA226  (hidden comment: 300mV~40V 2.5uV 10nA VSOP-10 Current Regulation/Management RoHS)
Микросхема датчика тока со встроенным 16-бит АЦП; Mfr.Part: INA226AIDGSR; Manufacturer: Texas Instruments; HelpURL: https://www.lcsc.com/product-detail/C49851.html
footprint VSSOP-10_INA226
pins: 1 A1 (in), 2 A0 (in), 3 Alert (oc), 4 SDA (oc), 5 SCL (oc), 6 VS (power), 7 GND (power), 8 VBUS, 9 IN-, 10 IN+

## INA3221
designator D?, comment value INA3221  (hidden comment: -300mV~26V 500nV 10uA 3 QFN-16-EP(4x4) Current Regulation/Management RoHS)
Микросхема трехканального амперметра-вольтметра; Manufacturer: Texas Instruments; Mfr.Part: INA3221AIRGVR; HelpURL: https://www.lcsc.com/product-detail/C181255.html
footprint QFN16_4x4mm
pins: 0 PAD, 1 IN-3, 2 IN+3, 3 GND, 4 VS, 5 A0, 6 SCL, 7 SDA, 8 Warning, 9 Critical, 10 PV, 11 IN-1, 12 IN+1, 13 TC, 14 IN-2, 15 IN+2, 16 VPU

## Inductor_APH0630T1R0M
designator L?, comment value 1 uH  (hidden comment: 12A 1uH ±20% 7.4mΩ 15A Molded Inductor SMD,7x6.6mm Fixed Inductors RoHS)
Mfr.Part: APH0630T1R0M; Manufacturer: APV; HelpURL: https://www.lcsc.com/product-detail/C5349700.html
footprint Inductor_APH0630
pins: 1, 2

## Inductor_AWLU0730F-1R0MGA
designator L?, comment value 1 uH  (hidden comment: 12A 1uH ±20% 7.4mΩ 15A Molded Inductor SMD,7x6.6mm Fixed Inductors RoHS)
17A 1uH ±20% 3.8mΩ 21A Molded Inductor SMD,7.2x7mm Fixed Inductors RoHS; Mfr.Part: AWLU0730F-1R0MGA; Manufacturer: APV; HelpURL: https://www.lcsc.com/product-detail/C54123597.html
footprint Inductor_AWLU0730F-1R0MGA
pins: 1, 2

## Inductor_FTC252012S2R2MBCA
designator L?, comment value 2.2 uH  (hidden comment: 3A 2.2uH ±20% 55mΩ 3.8A 1008 Fixed Inductors RoHS)
Mfr.Part: FTC252012S2R2MBCA; Manufacturer: cjiang; HelpURL: https://www.lcsc.com/product-detail/C5832372.html
footprint Inductor_1008
pins: 1, 2

## Inductor_FWP252012P-4R7ML
designator L?, comment value 4.7 uH  (hidden comment: 1.55A 4.7uH ±20% 1.9A 196mΩ Magnetic Shielded Inductor 1008 Fixed Inductors RoHS)
Mfr.Part: FWP252012P-4R7ML; Manufacturer: cjiang; HelpURL: https://www.lcsc.com/product-detail/C5179447.html
footprint Inductor_1008
pins: 1, 2

## Inductor_SL0420-4R7M
designator L?, comment value 4.7 uH  (hidden comment: 3A 4.7uH ±20% 105mΩ 3.5A SMD,4.5x4.1mm Fixed Inductors RoHS)
3A 4.7uH 105mΩ 3.5A ±20% SMD,4.5x4.1mm Fixed Inductors RoHS; Mfr.Part: SL0420-4R7M; Manufacturer: TECHFUSE; HelpURL: https://www.lcsc.com/product-detail/C22463808.html
footprint Inductor_SL0420-4R7M
pins: 1, 2

## LED_0603_EG
designator VD?, comment value LED  (hidden comment: Emerald Green 525nm LED Indication - Discrete 3.3V 0603)
Светодиод изумрудно-зеленый, 0603; Mfr.Part: XL-1608UGC-04; Manufacturer: XINGLIGHT; HelpURL: https://www.lcsc.com/product-detail/C965804.html
footprint LED: 0603Y
pins: A Anode, K Kathode

## LED_0603_IB
designator VD?, comment value LED  (hidden comment: Ice Blue LED Indication - Discrete 2.8V~3.3V 0603)
Светодиод ледяной синий, 0603; Mfr.Part: A-SP192GB1D-A02-4T; Manufacturer: Amicc; HelpURL: https://www.lcsc.com/product-detail/C5355458.html
footprint LED: 0603Y
pins: A Anode, K Kathode

## LED_0603_R
designator VD?, comment value LED  (hidden comment: Red 625nm LED Indication - Discrete 2.3V 0603)
Светодиод красный, 0603; Mfr.Part: XL-1608SURC-06; Manufacturer: XINGLIGHT; HelpURL: https://www.lcsc.com/product-detail/C965799.html
footprint LED: 0603Y
pins: A Anode, K Kathode

## LED_0603_W
designator VD?, comment value LED  (hidden comment: 451nm LED Indication - Discrete 2.9V 0603)
Светодиод белый, 0603; Mfr.Part: TZ0603W3G-001/2#; Manufacturer: TUOZHAN; HelpURL: https://www.lcsc.com/product-detail/C3011232.html
footprint LED: 0603Y
pins: A Anode, K Kathode

## LED_0603_Y
designator VD?, comment value LED  (hidden comment: Yellow 590nm LED Indication - Discrete 1.8V~2.4V 0603)
Светодиод желтый, 0603; Mfr.Part: TJ-S1608CY6T5ALC9Y-A5; Manufacturer: TOGIALED; HelpURL: https://www.lcsc.com/product-detail/C2837010.html
footprint LED: 0603Y
pins: A Anode, K Kathode

## MountingHole_3mm_Valoitus
designator *
footprint MountingHole_Valoitus_3.2_5mm
pins: 1

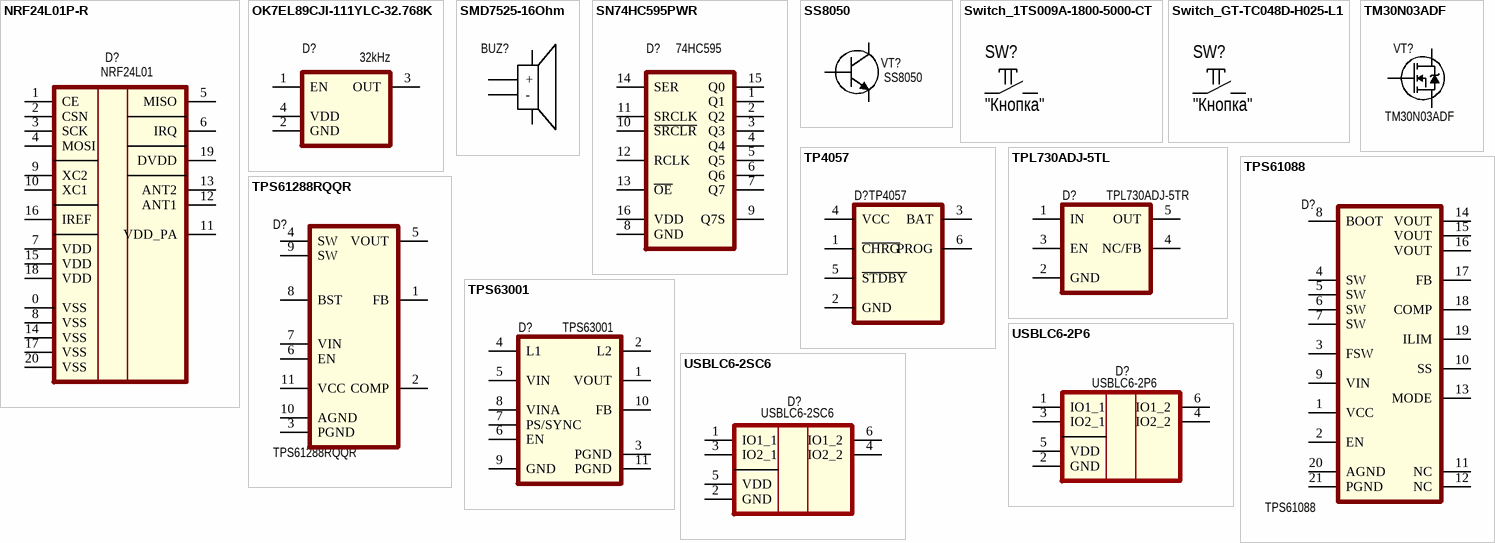
[diagram p4: symbols NRF24L01P-R to USBLC6-2SC6]

## NRF24L01P-R
designator D?, comment value NRF24L01  (hidden comment: IC RF TXRX ISM 2400MHz~2525MHz QFN-20-EP(4x4))
Микросхема радио-приемопередатчика 2.4 ГГц, QFN-20 4x4mm; Mfr.Part: NRF24L01P-R; Manufacturer: Nordic Semicomductor; HelpURL: https://www.lcsc.com/product-detail/C8791.html
footprint QFN-20_4x4mm
pins: 0 VSS, 1 CE, 2 CSN, 3 SCK, 4 MOSI, 5 MISO, 6 IRQ, 7 VDD, 8 VSS, 9 XC2, 10 XC1, 11 VDD_PA, 12 ANT1, 13 ANT2, 14 VSS, 15 VDD, 16 IREF, 17 VSS, 18 VDD, 19 DVDD, 20 VSS

## OK7EL89CJI-111YLC-32.768K
designator D?, comment value 32kHz  (hidden comment: Oscillator 32.768kHz ±10ppm CMOS 1.8V~3.3V SMD2016-4P)
Кварцевый генератор 32,768 кГц, 2016, 10ppm; Mfr.Part: OK7EL89CJI-111YLC-32.768K; Manufacturer: YXC Crystal Oscillators; HelpURL: https://www.lcsc.com/product-detail/C7425462.html
footprint OSC: 2016
pins: 1 EN, 2 GND, 3 OUT, 4 VDD

## SMD7525-16Ohm
designator BUZ?, comment Passive (Externally Driven) 2.7kHz Electromagnetic 3.6V SMD,7.5x7.5mm Alarms, Buzzers, and Sirens RoHS  (value not drawn)
Буззер электромагнитный SMD, 7.5x7.5x2.5mm; Manufacturer: XHXDZ; Mfr.Part: SMD7525-16Ω; Value: Buzzer; HelpURL: https://www.lcsc.com/product-detail/C49246950.html
footprint BUZZER_SMD_7.5X7.5MM
pins: 1 NC, 2 +, 3 -, 4 NC

## SN74HC595PWR
designator D?, comment value 74HC595  (hidden comment: 2V~6V 1 7.8mA 26ns@6V,50pF Serial-to-Serial or Parallel TSSOP-16 Shift Registers RoHS)
Микросхема восьмиразрядного сдвигового регистра; Manufacturer: Texas Instruments; Mfr.Part: SN74HC595PWR; HelpURL: https://www.lcsc.com/product-detail/C273642.html
footprint TSSOP-16
pins: 1 Q1, 2 Q2, 3 Q3, 4 Q4, 5 Q5, 6 Q6, 7 Q7, 8 GND, 9 Q7S, 10 ~{SRCLR}, 11 SRCLK, 12 RCLK, 13 ~{OE}, 14 SER, 15 Q0, 16 VDD

## SS8050
designator VT?, comment value SS8050  (hidden comment: Bipolar (BJT) Transistor NPN 25V 1.5A 300mW Surface Mount SOT-23)
Транзистор кремниевый NPN, 25В 1.5А 100МГц 300мВт, SOT-23; Manufacturer: JSMSEMI; Mfr.Part: SS8050; HelpURL: https://www.lcsc.com/product-detail/C916392.html
footprint SOT-23
pins: 1 B, 2 E, 3 C

## Switch_1TS009A-1800-5000-CT
designator SW?, comment CommentText: "Кнопка"  (hidden comment: Tactile Switch SPST 180gf 5mm J-Lead 6mm x 6mm Surface Mount)
Микропереключатель SMD, 6x6мм силикон; Mfr.Part: 1TS009A-1800-5000-CT; Manufacturer: HYP; HelpURL: https://www.lcsc.com/product-detail/C319409.html
footprint Switch_1TS009xxxx-xxxx-xxxx
pins: 1, 2

## Switch_GT-TC048D-H025-L1
designator SW?, comment CommentText: "Кнопка"  (hidden comment: Tactile Switch SPST 400gf 2.5mm 4.2mm x 3.2mm Surface Mount)
Микропереключатель SMD, SMD-4P,4.2x3.2mm; Manufacturer: G-Switch; Mfr.Part: GT-TC048D-H025-L1; HelpURL: https://www.lcsc.com/product-detail/C843674.html
footprint Button_4.2x2.3mm
footprint Button_4.2x2.3mm
pins: 1, 2

## TM30N03ADF
designator VT?, comment value TM30N03ADF  (hidden comment: N-Channel 30V 30A 15W Surface Mount DFN3x3-8)
Транзистор N-канальный, 30В 30А 15Вт, DFN3x3-8; Manufacturer: Tritech-MOS; Mfr.Part: TM30N03ADF; HelpURL: https://www.lcsc.com/product-detail/C7422839.html
footprint TM30N03ADF
pins: D, G, S

## TP4057
designator D?, comment value TP4057  (hidden comment: Lithium-ion/Polymer SOT-23-6)
Микросхема зарядки li-ion барареи, SOT-23-6; Manufacturer: JSMSEMI; Mfr.Part: TP4057; HelpURL: https://www.lcsc.com/product-detail/C20606861.html
footprint SOT23-6 (pitch 0.95 mm)
pins: 1 ~{CHRG}, 2 GND, 3 BAT, 4 VCC, 5 ~{STDBY}, 6 PROG

## TPL730ADJ-5TL
designator D?, comment value TPL730ADJ-5TR  (hidden comment: 800mV~5V Positive Adjustable SOT-23-5 Voltage Regulators - Linear, Low Drop Out (LDO) Regulators RoHS)
Микросхема драйвера импульсного понижающего преобразователя; Manufacturer: 3PEAK; Mfr.Part: TPL730ADJ-5TR; HelpURL: https://www.lcsc.com/product-detail/C2690181.html
footprint SOT-23-5
pins: 1 IN, 2 GND, 3 EN, 4 NC/FB, 5 OUT

## TPS61088
designator D?, comment value TPS61088  (hidden comment: Boost Switching Regulator IC Adjustable 4.5V~12.6V 1 Output 10A VQFN-20-EP(3.6x4.6))
Микросхема драйвера импульсного повышающего преобразователя; Manufacturer: Texas Instruments; Mfr.Part: TPS61088RHLR; HelpURL: https://www.lcsc.com/product-detail/C87357.html
footprint TPS61088
pins: 1 VCC, 2 EN, 3 FSW, 4 SW, 5 SW, 6 SW, 7 SW, 8 BOOT, 9 VIN, 10 SS, 11 NC, 12 NC, 13 MODE, 14 VOUT, 15 VOUT, 16 VOUT, 17 FB, 18 COMP, 19 ILIM, 20 AGND, 21 PGND

## TPS61288RQQR
designator D?, comment value TPS61288RQQR  (hidden comment: Boost Switching Regulator IC Adjustable 4.5V~18V 1 Output 15A VQFN-11-HR(2.5x3))
Manufacturer: Texas Instruments; Mfr.Part: TPS61288RQQR; HelpURL: https://www.lcsc.com/product-image/C5219223.html
footprint TPS61288
pins: 1 FB, 2 COMP, 3 PGND, 4 SW, 5 VOUT, 6 EN, 7 VIN, 8 BST, 9 SW, 10 AGND, 11 VCC

## TPS63001
designator D?, comment value TPS63001  (hidden comment: 1.5MHz Buck-Boost Fixed 3.3V VSON-10-EP(3x3) Voltage Regulators - DC DC Switching Regulators RoHS)
Микросхема драйвера повышающе-понижающего преобразователя, вход 1,8...5,5В, выход 3,3В, 800-1200мА; Mfr.Part: TPS63001DRCR; Manufacturer: Texas Instruments; HelpURL: https://www.lcsc.com/product-detail/C28060.html
footprint TPS6300x
pins: 1 VOUT, 2 L2, 3 PGND, 4 L1, 5 VIN, 6 EN, 7 PS/SYNC, 8 VINA, 9 GND, 10 FB, 11 PGND

## USBLC6-2P6
designator D?  value USBLC6-2P6
Микросхема защиты USB от статики, SOT-666; Manufacturer: STMicroelectronics; Mfr.Part: USBLC6-2P6; HelpURL: https://www.lcsc.com/product-detail/C15999.html
footprint SOT-666
pins: 1 IO1_1, 2 GND, 3 IO2_1, 4 IO2_2, 5 VDD, 6 IO1_2

## USBLC6-2SC6
designator D?  value USBLC6-2SC6
Микросхема защиты USB от статики, SOT-23-6L; Manufacturer: STMicroelectronics; Mfr.Part: USBLC6-2SC6; HelpURL: https://www.lcsc.com/product-detail/C7519.html
footprint SOT23-6L
pins: 1 IO1_1, 2 GND, 3 IO2_1, 4 IO2_2, 5 VDD, 6 IO1_2